# Altium footprint library agilent-technologies.PCBLIB: 2 footprints
Each footprint in its own frame and in the unit in brackets; x right, y up, seen from the top. Pads: shape width x height; smd on the part's side, far side on the other; paste and mask are expansions set on the pad; w line width, h text height; cw(c..) or ccw(c..) is an arc to the next point about the centre after c.
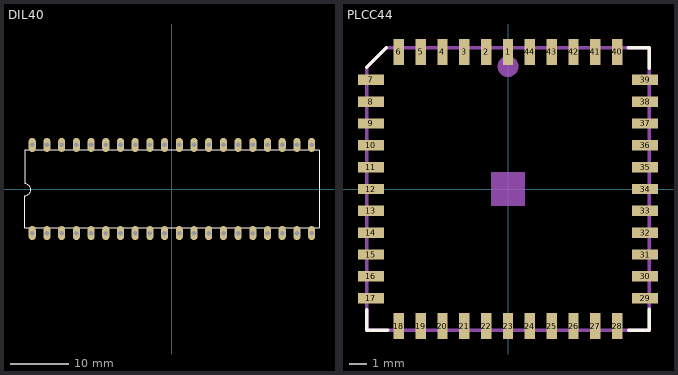
[diagram p0: the footprints below, top view; thin cyan lines are the x and y axes]

## DIL40 [mil]
pads (40):
  oval 48x96 hole 32: 1(-950,-300) 2(-850,-300) 3(-750,-300) 4(-650,-300) 5(-550,-300) 6(-450,-300) 7(-350,-300) 8(-250,-300) 9(-150,-300) 10(-50,-300) 11(50,-300) 12(150,-300) 13(250,-300) 14(350,-300) 15(450,-300) 16(550,-300) 17(650,-300) 18(750,-300) 19(850,-300) 20(950,-300) 21(950,300) 22(850,300) 23(750,300) 24(650,300) 25(550,300) 26(450,300) 27(350,300) 28(250,300) 29(150,300) 30(50,300) 31(-50,300) 32(-150,300) 33(-250,300) 34(-350,300) 35(-450,300) 36(-550,300) 37(-650,300) 38(-750,300) 39(-850,300) 40(-950,300)
Top Overlay:
  lines w6: -1000,-265 1000,-265 1000,265 -1000,265 -1000,35 cw(c-1000,-5) -1000,-45 -1000,-265

## PLCC44 [mil]
pads (44):
  rect 23.62x59.06 smd: 1(0,313.98) 2(-50,313.98) 3(-100,313.98) 4(-150,313.98) 5(-200,313.98) 6(-250,313.98) 18(-250,-313.98) 19(-200,-313.98) 20(-150,-313.98) 21(-100,-313.98) 22(-50,-313.98) 23(0,-313.98) 24(50,-313.98) 25(100,-313.98) 26(150,-313.98) 27(200,-313.98) 28(250,-313.98) 40(250,313.98) 41(200,313.98) 42(150,313.98) 43(100,313.98) 44(50,313.98)
  rect 59.06x23.62 smd: 7(-313.98,250) 8(-313.98,200) 9(-313.98,150) 10(-313.98,100) 11(-313.98,50) 12(-313.98,0) 13(-313.98,-50) 14(-313.98,-100) 15(-313.98,-150) 16(-313.98,-200) 17(-313.98,-250) 29(313.98,-250) 30(313.98,-200) 31(313.98,-150) 32(313.98,-100) 33(313.98,-50) 34(313.98,0) 35(313.98,50) 36(313.98,100) 37(313.98,150) 38(313.98,200) 39(313.98,250)
Top Overlay:
  lines w8: -323.82,-276.18 -323.82,-323.82 -275.87,-323.82 ; -323.82,279.13 -279.13,323.82 ; 275.87,323.82 323.82,323.82 323.82,276.18 ; 276.18,-323.82 323.82,-323.82 323.82,-275.87
Mechanical 6:
  rectangle: -39.37,-39.37 39.37,39.37
Mechanical 16:
  circle w24: c0,280.51 r11.81
  rectangle: -10.24,325.79 10.24,343.5
  rectangle: -60.24,325.79 -39.76,343.5
  rectangle: -110.24,325.79 -89.76,343.5
  rectangle: -160.24,325.79 -139.76,343.5
  rectangle: -210.24,325.79 -189.76,343.5
  rectangle: -260.24,325.79 -239.76,343.5
  rectangle: -343.5,239.76 -325.79,260.24
  rectangle: -343.5,189.76 -325.79,210.24
  rectangle: -343.5,139.76 -325.79,160.24
  rectangle: -343.5,89.76 -325.79,110.24
  rectangle: -343.5,39.76 -325.79,60.24
  rectangle: -343.5,-10.24 -325.79,10.24
  rectangle: -343.5,-60.24 -325.79,-39.76
  rectangle: -343.5,-110.24 -325.79,-89.76
  rectangle: -343.5,-160.24 -325.79,-139.76
  rectangle: -343.5,-210.24 -325.79,-189.76
  rectangle: -343.5,-260.24 -325.79,-239.76
  rectangle: -260.24,-343.5 -239.76,-325.79
  rectangle: -210.24,-343.5 -189.76,-325.79
  rectangle: -160.24,-343.5 -139.76,-325.79
  rectangle: -110.24,-343.5 -89.76,-325.79
  rectangle: -60.24,-343.5 -39.76,-325.79
  rectangle: -10.24,-343.5 10.24,-325.79
  rectangle: 39.76,-343.5 60.24,-325.79
  rectangle: 89.76,-343.5 110.24,-325.79
  rectangle: 139.76,-343.5 160.24,-325.79
  rectangle: 189.76,-343.5 210.24,-325.79
  rectangle: 239.76,-343.5 260.24,-325.79
  rectangle: 325.79,-260.24 343.5,-239.76
  rectangle: 325.79,-210.24 343.5,-189.76
  rectangle: 325.79,-160.24 343.5,-139.76
  rectangle: 325.79,-110.24 343.5,-89.76
  rectangle: 325.79,-60.24 343.5,-39.76
  rectangle: 325.79,-10.24 343.5,10.24
  rectangle: 325.79,39.76 343.5,60.24
  rectangle: 325.79,89.76 343.5,110.24
  rectangle: 325.79,139.76 343.5,160.24
  rectangle: 325.79,189.76 343.5,210.24
  rectangle: 325.79,239.76 343.5,260.24
  rectangle: 239.76,325.79 260.24,343.5
  rectangle: 189.76,325.79 210.24,343.5
  rectangle: 139.76,325.79 160.24,343.5
  rectangle: 89.76,325.79 110.24,343.5
  rectangle: 39.76,325.79 60.24,343.5
  lines w8: -323.82,-323.82 -323.82,279.13 -279.13,323.82 323.82,323.82 323.82,-323.82 -323.82,-323.82